# Altium integrated library Resistors.IntLib: 4954 symbols (part 3 of 32)
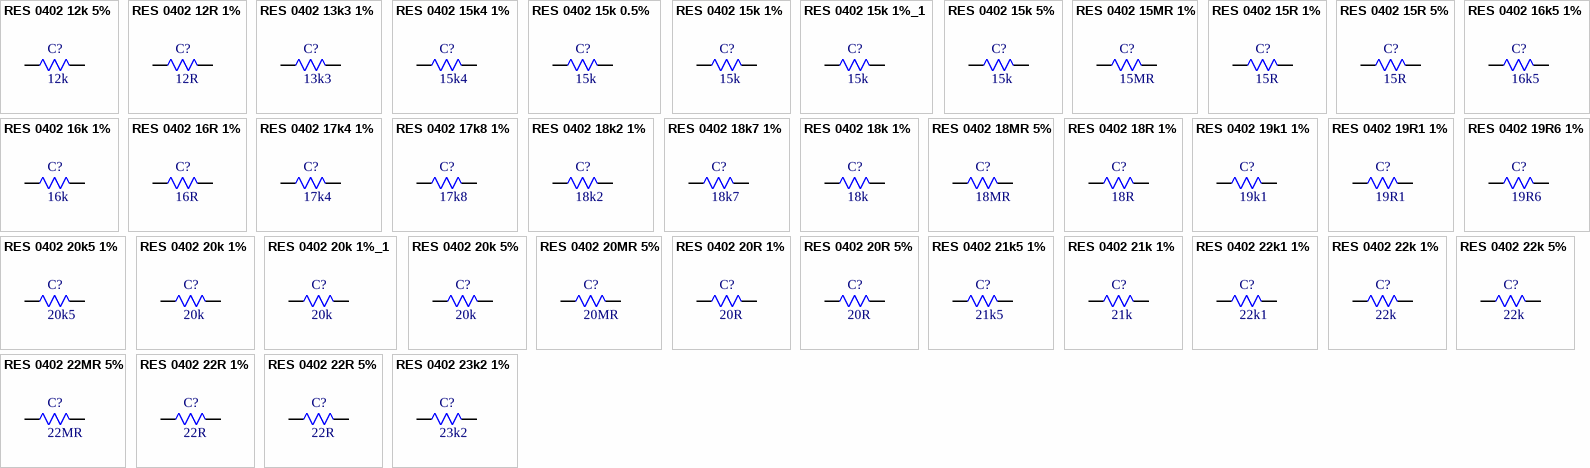
[diagram p125: symbols RES 0402 12k 5% to RES 0402 23k2 1%]

## RES 0402 22MR 5%
designator C?, comment 22MR
62.5mW 22MR Thick Film Resistor 200ppm/â„ƒ 5% 0402 Chip Resistor - Surface Mount RoHS; Manufacturer: FOJAN; Manufacturer Part Number: FRG0402J226 TS; Supplier: LCSC; Supplier Part Number: C7468689; Resistance: 22MR; Tolerance: 5%; Power: 62.5mW
footprint RES SMD 0402
pins: 1, 2

## RES 0402 22R 1%
designator C?, comment 22R
22R 1% 62.5mW 0402 Thick Film Resistor; Manufacturer: FOJAN; Manufacturer Part Number: FRC0402F22R0TS; Voltage Rating: 50V; Supplier: LCSC; Supplier Part Number: C2929994; Resistance: 22R; Tolerance: 1%; Power: 62.5mW
footprint RES SMD 0402
pins: 1, 2

## RES 0402 22R 5%
designator C?, comment 22R
22R 5% 62.5mW 0402 Thick Film Resistor; Manufacturer: FOJAN; Manufacturer Part Number: FRC0402J220 TS; Voltage Rating: 50V; Supplier: LCSC; Supplier Part Number: C2906914; Resistance: 22R; Tolerance: 5%; Power: 62.5mW
footprint RES SMD 0402
pins: 1, 2

## RES 0402 23k2 1%
designator C?, comment 23k2
23.2kR 1% 62.5mW 0402 Thick Film Resistor; Manufacturer: FOJAN; Manufacturer Part Number: FRC0402F2322TS; Voltage Rating: 50V; Supplier: LCSC; Supplier Part Number: C2998177; Resistance: 23k2; Tolerance: 1%; Power: 62.5mW
footprint RES SMD 0402
pins: 1, 2

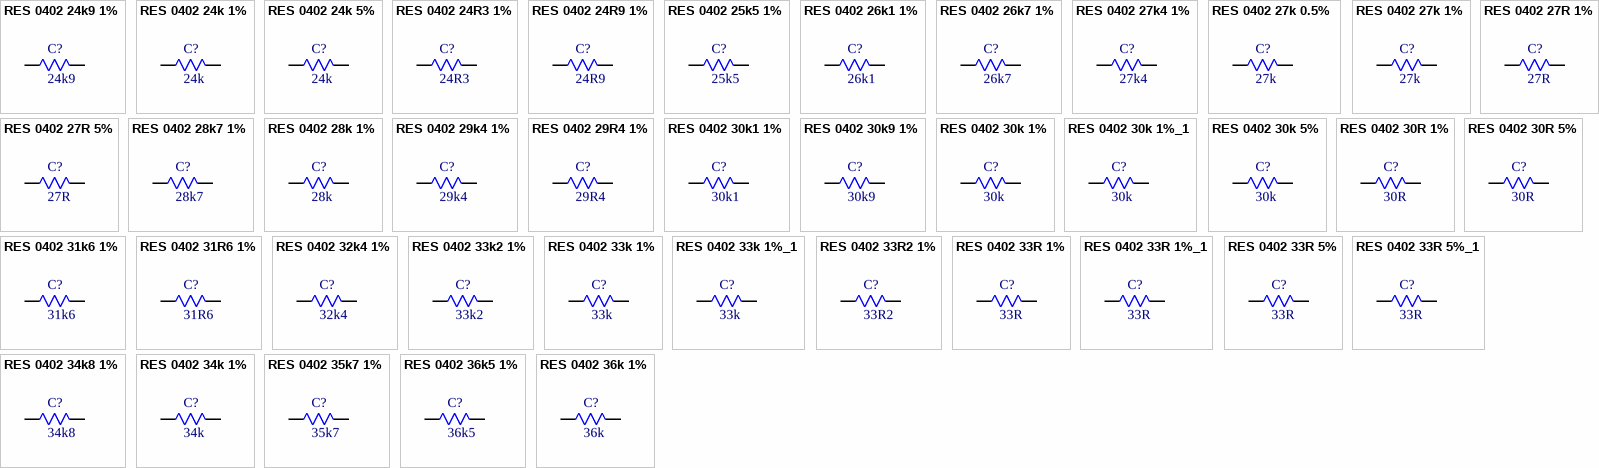
[diagram p8: symbols RES 0402 24k9 1% to RES 0402 36k 1%]

## RES 0402 24k9 1%
designator C?, comment 24k9
24.9kR 1% 62.5mW 0402 Thick Film Resistor; Manufacturer: FOJAN; Manufacturer Part Number: FRC0402F2492TS; Voltage Rating: 50V; Supplier: LCSC; Supplier Part Number: C2998048; Resistance: 24k9; Tolerance: 1%; Power: 62.5mW
footprint RES SMD 0402
pins: 1, 2

## RES 0402 24k 1%
designator C?, comment 24k
24kR 1% 62.5mW 0402 Thick Film Resistor; Manufacturer: FOJAN; Manufacturer Part Number: FRC0402F2402TS; Voltage Rating: 50V; Supplier: LCSC; Supplier Part Number: C2933082; Resistance: 24k; Tolerance: 1%; Power: 62.5mW
footprint RES SMD 0402
pins: 1, 2

## RES 0402 24k 5%
designator C?, comment 24k
24kR 5% 62.5mW 0402 Thick Film Resistor; Manufacturer: FOJAN; Manufacturer Part Number: FRC0402J243 TS; Voltage Rating: 50V; Supplier: LCSC; Supplier Part Number: C2906917; Resistance: 24k; Tolerance: 5%; Power: 62.5mW
footprint RES SMD 0402
pins: 1, 2

## RES 0402 24R3 1%
designator C?, comment 24R3
24.3R 1% 62.5mW 0402 Thick Film Resistor; Manufacturer: FOJAN; Manufacturer Part Number: FRC0402F24R3TS; Voltage Rating: 50V; Supplier: LCSC; Supplier Part Number: C5126205; Resistance: 24R3; Tolerance: 1%; Power: 62.5mW
footprint RES SMD 0402
pins: 1, 2

## RES 0402 24R9 1%
designator C?, comment 24R9
24.9R 1% 62.5mW 0402 Thick Film Resistor; Manufacturer: FOJAN; Manufacturer Part Number: FRC0402F24R9TS; Voltage Rating: 50V; Supplier: LCSC; Supplier Part Number: C5126017; Resistance: 24R9; Tolerance: 1%; Power: 62.5mW
footprint RES SMD 0402
pins: 1, 2

## RES 0402 25k5 1%
designator C?, comment 25k5
25.5kR 1% 62.5mW 0402 Thick Film Resistor; Manufacturer: FOJAN; Manufacturer Part Number: FRC0402F2552TS; Voltage Rating: 50V; Supplier: LCSC; Supplier Part Number: C2998160; Resistance: 25k5; Tolerance: 1%; Power: 62.5mW
footprint RES SMD 0402
pins: 1, 2

## RES 0402 26k1 1%
designator C?, comment 26k1
26.1kR 1% 62.5mW 0402 Thick Film Resistor; Manufacturer: FOJAN; Manufacturer Part Number: FRC0402F2612TS; Voltage Rating: 50V; Supplier: LCSC; Supplier Part Number: C2998049; Resistance: 26k1; Tolerance: 1%; Power: 62.5mW
footprint RES SMD 0402
pins: 1, 2

## RES 0402 26k7 1%
designator C?, comment 26k7
26.7kR 1% 62.5mW 0402 Thick Film Resistor; Manufacturer: FOJAN; Manufacturer Part Number: FRC0402F2672TS; Voltage Rating: 50V; Supplier: LCSC; Supplier Part Number: C5121521; Resistance: 26k7; Tolerance: 1%; Power: 62.5mW
footprint RES SMD 0402
pins: 1, 2

## RES 0402 27k4 1%
designator C?, comment 27k4
27.4kR 1% 62.5mW 0402 Thick Film Resistor; Manufacturer: FOJAN; Manufacturer Part Number: FRC0402F2742TS; Voltage Rating: 50V; Supplier: LCSC; Supplier Part Number: C5159682; Resistance: 27k4; Tolerance: 1%; Power: 62.5mW
footprint RES SMD 0402
pins: 1, 2

## RES 0402 27k 0.5%
designator C?, comment 27k
27kR 62.5mW Thick Film Resistor 0.5% 0402 Chip Resistor - Surface Mount RoHS; Manufacturer: FOJAN; Manufacturer Part Number: FRH0402D2702TS; Supplier: LCSC; Supplier Part Number: C18164314; Resistance: 27k; Tolerance: 0.5%; Power: 62.5mW
footprint RES SMD 0402
pins: 1, 2

## RES 0402 27k 1%
designator C?, comment 27k
27kR 1% 62.5mW 0402 Thick Film Resistor; Manufacturer: FOJAN; Manufacturer Part Number: FRC0402F2702TS; Voltage Rating: 50V; Supplier: LCSC; Supplier Part Number: C2933084; Resistance: 27k; Tolerance: 1%; Power: 62.5mW
footprint RES SMD 0402
pins: 1, 2

## RES 0402 27R 1%
designator C?, comment 27R
27R 1% 62.5mW 0402 Thick Film Resistor; Manufacturer: FOJAN; Manufacturer Part Number: FRC0402F27R0TS; Voltage Rating: 50V; Supplier: LCSC; Supplier Part Number: C2909343; Resistance: 27R; Tolerance: 1%; Power: 62.5mW
footprint RES SMD 0402
pins: 1, 2

## RES 0402 27R 5%
designator C?, comment 27R
27R 5% 62.5mW 0402 Thick Film Resistor; Manufacturer: FOJAN; Manufacturer Part Number: FRC0402J270TS; Voltage Rating: 50V; Supplier: LCSC; Supplier Part Number: C2929914; Resistance: 27R; Tolerance: 5%; Power: 62.5mW
footprint RES SMD 0402
pins: 1, 2

## RES 0402 28k7 1%
designator C?, comment 28k7
28.7kR 1% 62.5mW 0402 Thick Film Resistor; Manufacturer: FOJAN; Manufacturer Part Number: FRC0402F2872TS; Voltage Rating: 50V; Supplier: LCSC; Supplier Part Number: C2998072; Resistance: 28k7; Tolerance: 1%; Power: 62.5mW
footprint RES SMD 0402
pins: 1, 2

## RES 0402 28k 1%
designator C?, comment 28k
28kR 1% 62.5mW 0402 Thick Film Resistor; Manufacturer: FOJAN; Manufacturer Part Number: FRC0402F2802TS; Voltage Rating: 50V; Supplier: LCSC; Supplier Part Number: C2998150; Resistance: 28k; Tolerance: 1%; Power: 62.5mW
footprint RES SMD 0402
pins: 1, 2

## RES 0402 29k4 1%
designator C?, comment 29k4
29.4kR 1% 62.5mW 0402 Thick Film Resistor; Manufacturer: FOJAN; Manufacturer Part Number: FRC0402F2942TS; Voltage Rating: 50V; Supplier: LCSC; Supplier Part Number: C5203996; Resistance: 29k4; Tolerance: 1%; Power: 62.5mW
footprint RES SMD 0402
pins: 1, 2

## RES 0402 29R4 1%
designator C?, comment 29R4
29.4R 1% 62.5mW 0402 Thick Film Resistor; Manufacturer: FOJAN; Manufacturer Part Number: FRC0402F29R4TS; Voltage Rating: 50V; Supplier: LCSC; Supplier Part Number: C5121523; Resistance: 29R4; Tolerance: 1%; Power: 62.5mW
footprint RES SMD 0402
pins: 1, 2

## RES 0402 30k1 1%
designator C?, comment 30k1
30.1kR 1% 62.5mW 0402 Thick Film Resistor; Manufacturer: FOJAN; Manufacturer Part Number: FRC0402F3012TS; Voltage Rating: 50V; Supplier: LCSC; Supplier Part Number: C2998131; Resistance: 30k1; Tolerance: 1%; Power: 62.5mW
footprint RES SMD 0402
pins: 1, 2

## RES 0402 30k9 1%
designator C?, comment 30k9
30.9kR 1% 62.5mW 0402 Thick Film Resistor; Manufacturer: FOJAN; Manufacturer Part Number: FRC0402F3092TS; Voltage Rating: 50V; Supplier: LCSC; Supplier Part Number: C2933086; Resistance: 30k9; Tolerance: 1%; Power: 62.5mW
footprint RES SMD 0402
pins: 1, 2

## RES 0402 30k 1%
designator C?, comment 30k
30kR 1% 62.5mW 0402 Thick Film Resistor; Manufacturer: FOJAN; Manufacturer Part Number: FRC0402F3002TS; Voltage Rating: 50V; Supplier: LCSC; Supplier Part Number: C2909347; Resistance: 30k; Tolerance: 1%; Power: 62.5mW
footprint RES SMD 0402
pins: 1, 2

## RES 0402 30k 1%_1
designator C?, comment 30k
30kR 62.5mW 50V Thick Film Resistor 1% 0402 Chip Resistor - Surface Mount RoHS; Manufacturer: FOJAN; Manufacturer Part Number: FRQ0402F3002TS; Supplier: LCSC; Supplier Part Number: C52033527; Resistance: 30k; Tolerance: 1%; Voltage Rating: 50V; Power: 62.5mW
footprint RES SMD 0402
pins: 1, 2

## RES 0402 30k 5%
designator C?, comment 30k
30kR 5% 62.5mW 0402 Thick Film Resistor; Manufacturer: FOJAN; Manufacturer Part Number: FRC0402J303 TS; Voltage Rating: 50V; Supplier: LCSC; Supplier Part Number: C2906928; Resistance: 30k; Tolerance: 5%; Power: 62.5mW
footprint RES SMD 0402
pins: 1, 2

## RES 0402 30R 1%
designator C?, comment 30R
30R 1% 62.5mW 0402 Thick Film Resistor; Manufacturer: FOJAN; Manufacturer Part Number: FRC0402F30R0TS; Voltage Rating: 50V; Supplier: LCSC; Supplier Part Number: C2909348; Resistance: 30R; Tolerance: 1%; Power: 62.5mW
footprint RES SMD 0402
pins: 1, 2

## RES 0402 30R 5%
designator C?, comment 30R
30R 5% 62.5mW 0402 Thick Film Resistor; Manufacturer: FOJAN; Manufacturer Part Number: FRC0402J300TS; Voltage Rating: 50V; Supplier: LCSC; Supplier Part Number: C2929919; Resistance: 30R; Tolerance: 5%; Power: 62.5mW
footprint RES SMD 0402
pins: 1, 2

## RES 0402 31k6 1%
designator C?, comment 31k6
31.6kR 1% 62.5mW 0402 Thick Film Resistor; Manufacturer: FOJAN; Manufacturer Part Number: FRC0402F3162TS; Voltage Rating: 50V; Supplier: LCSC; Supplier Part Number: C2998091; Resistance: 31k6; Tolerance: 1%; Power: 62.5mW
footprint RES SMD 0402
pins: 1, 2

## RES 0402 31R6 1%
designator C?, comment 31R6
31.6R 1% 62.5mW 0402 Thick Film Resistor; Manufacturer: FOJAN; Manufacturer Part Number: FRC0402F31R6TS; Voltage Rating: 50V; Supplier: LCSC; Supplier Part Number: C5126033; Resistance: 31R6; Tolerance: 1%; Power: 62.5mW
footprint RES SMD 0402
pins: 1, 2

## RES 0402 32k4 1%
designator C?, comment 32k4
32.4kR 1% 62.5mW 0402 Thick Film Resistor; Manufacturer: FOJAN; Manufacturer Part Number: FRC0402F3242TS; Voltage Rating: 50V; Supplier: LCSC; Supplier Part Number: C2933088; Resistance: 32k4; Tolerance: 1%; Power: 62.5mW
footprint RES SMD 0402
pins: 1, 2

## RES 0402 33k2 1%
designator C?, comment 33k2
33.2kR 1% 62.5mW 0402 Thick Film Resistor; Manufacturer: FOJAN; Manufacturer Part Number: FRC0402F3322TS; Voltage Rating: 50V; Supplier: LCSC; Supplier Part Number: C2930001; Resistance: 33k2; Tolerance: 1%; Power: 62.5mW
footprint RES SMD 0402
pins: 1, 2

## RES 0402 33k 1%
designator C?, comment 33k
33kR 1% 62.5mW 0402 Thick Film Resistor; Manufacturer: FOJAN; Manufacturer Part Number: FRC0402F3302TS; Voltage Rating: 50V; Supplier: LCSC; Supplier Part Number: C2909350; Resistance: 33k; Tolerance: 1%; Power: 62.5mW
footprint RES SMD 0402
pins: 1, 2

## RES 0402 33k 1%_1
designator C?, comment 33k
33kR 1% 62.5mW 0402 Thick Film Resistor AEC-Q200; Manufacturer: FOJAN; Manufacturer Part Number: FRQ0402F3302TS; Voltage Rating: 50V; Supplier: LCSC; Supplier Part Number: C5713430; Resistance: 33k; Tolerance: 1%; Power: 62.5mW
footprint RES SMD 0402
pins: 1, 2

## RES 0402 33R2 1%
designator C?, comment 33R2
33.2R 1% 62.5mW 0402 Thick Film Resistor; Manufacturer: FOJAN; Manufacturer Part Number: FRC0402F33R2TS; Voltage Rating: 50V; Supplier: LCSC; Supplier Part Number: C42372093; Resistance: 33R2; Tolerance: 1%; Power: 62.5mW
footprint RES SMD 0402
pins: 1, 2

## RES 0402 33R 1%
designator C?, comment 33R
33R 1% 62.5mW 0402 Thick Film Resistor; Manufacturer: FOJAN; Manufacturer Part Number: FRC0402F33R0TS; Voltage Rating: 50V; Supplier: LCSC; Supplier Part Number: C2906868; Resistance: 33R; Tolerance: 1%; Power: 62.5mW
footprint RES SMD 0402
pins: 1, 2

## RES 0402 33R 1%_1
designator C?, comment 33R
33R 62.5mW 50V Thick Film Resistor 100ppm/â„ƒ 1% 0402 Chip Resistor - Surface Mount RoHS; Manufacturer: FOJAN; Manufacturer Part Number: FRQ0402F33R0TS; Supplier: LCSC; Supplier Part Number: C18222252; Resistance: 33R; Tolerance: 1%; Voltage Rating: 50V; Power: 62.5mW
footprint RES SMD 0402
pins: 1, 2

## RES 0402 33R 5%
designator C?, comment 33R
33R 5% 62.5mW 0402 Thick Film Resistor; Manufacturer: FOJAN; Manufacturer Part Number: FRC0402J330 TS; Voltage Rating: 50V; Supplier: LCSC; Supplier Part Number: C2906931; Resistance: 33R; Tolerance: 5%; Power: 62.5mW
footprint RES SMD 0402
pins: 1, 2

## RES 0402 33R 5%_1
designator C?, comment 33R
33R 62.5mW 50V Thick Film Resistor 5% 0402 Chip Resistor - Surface Mount RoHS; Manufacturer: FOJAN; Manufacturer Part Number: FRQ0402J330 TS; Supplier: LCSC; Supplier Part Number: C52033532; Resistance: 33R; Tolerance: 5%; Voltage Rating: 50V; Power: 62.5mW
footprint RES SMD 0402
pins: 1, 2

## RES 0402 34k8 1%
designator C?, comment 34k8
34.8kR 1% 62.5mW 0402 Thick Film Resistor; Manufacturer: FOJAN; Manufacturer Part Number: FRC0402F3482TS; Voltage Rating: 50V; Supplier: LCSC; Supplier Part Number: C2998092; Resistance: 34k8; Tolerance: 1%; Power: 62.5mW
footprint RES SMD 0402
pins: 1, 2

## RES 0402 34k 1%
designator C?, comment 34k
34kR 1% 62.5mW 0402 Thick Film Resistor; Manufacturer: FOJAN; Manufacturer Part Number: FRC0402F3402TS; Voltage Rating: 50V; Supplier: LCSC; Supplier Part Number: C2933089; Resistance: 34k; Tolerance: 1%; Power: 62.5mW
footprint RES SMD 0402
pins: 1, 2

## RES 0402 35k7 1%
designator C?, comment 35k7
35.7kR 1% 62.5mW 0402 Thick Film Resistor; Manufacturer: FOJAN; Manufacturer Part Number: FRC0402F3572TS; Voltage Rating: 50V; Supplier: LCSC; Supplier Part Number: C2998133; Resistance: 35k7; Tolerance: 1%; Power: 62.5mW
footprint RES SMD 0402
pins: 1, 2

## RES 0402 36k5 1%
designator C?, comment 36k5
62.5mW 36.5kR 50V Thick Film Resistor 100ppm/â„ƒ 1% 0402 Chip Resistor - Surface Mount RoHS; Manufacturer: FOJAN; Manufacturer Part Number: FRC0402F3652TS; Supplier: LCSC; Supplier Part Number: C49010116; Resistance: 36k5; Tolerance: 1%; Voltage Rating: 50V; Power: 62.5mW
footprint RES SMD 0402
pins: 1, 2

## RES 0402 36k 1%
designator C?, comment 36k
36kR 1% 62.5mW 0402 Thick Film Resistor; Manufacturer: FOJAN; Manufacturer Part Number: FRC0402F3602TS; Voltage Rating: 50V; Supplier: LCSC; Supplier Part Number: C2930004; Resistance: 36k; Tolerance: 1%; Power: 62.5mW
footprint RES SMD 0402
pins: 1, 2

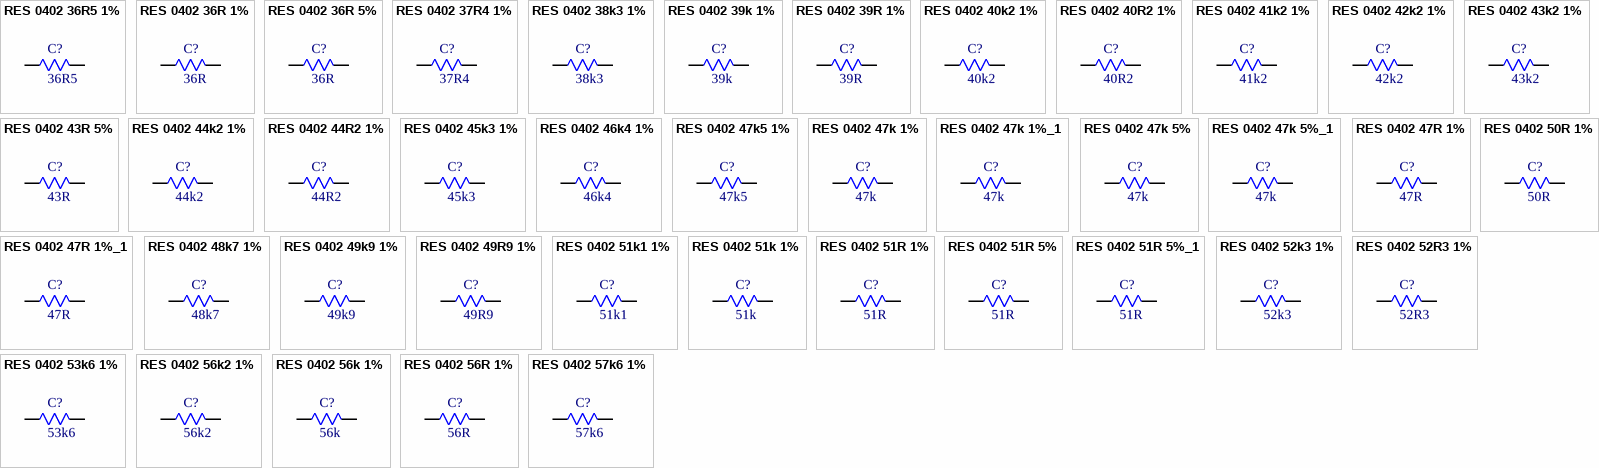
[diagram p9: symbols RES 0402 36R5 1% to RES 0402 57k6 1%]

## RES 0402 36R5 1%
designator C?, comment 36R5
62.5mW 36.5R 50V Thick Film Resistor 1% 100ppm/â„ƒ 0402 Chip Resistor - Surface Mount RoHS; Manufacturer: FOJAN; Manufacturer Part Number: FRC0402F36R5TS; Supplier: LCSC; Supplier Part Number: C7467317; Resistance: 36R5; Tolerance: 1%; Voltage Rating: 50V; Power: 62.5mW
footprint RES SMD 0402
pins: 1, 2

## RES 0402 36R 1%
designator C?, comment 36R
36R 1% 62.5mW 0402 Thick Film Resistor; Manufacturer: FOJAN; Manufacturer Part Number: FRC0402F36R0TS; Voltage Rating: 50V; Supplier: LCSC; Supplier Part Number: C2998152; Resistance: 36R; Tolerance: 1%; Power: 62.5mW
footprint RES SMD 0402
pins: 1, 2

## RES 0402 36R 5%
designator C?, comment 36R
36R 5% 62.5mW 0402 Thick Film Resistor; Manufacturer: FOJAN; Manufacturer Part Number: FRC0402J360 TS; Voltage Rating: 50V; Supplier: LCSC; Supplier Part Number: C2906935; Resistance: 36R; Tolerance: 5%; Power: 62.5mW
footprint RES SMD 0402
pins: 1, 2

## RES 0402 37R4 1%
designator C?, comment 37R4
37.4R 1% 62.5mW 0402 Thick Film Resistor; Manufacturer: FOJAN; Manufacturer Part Number: FRC0402F37R4TS; Voltage Rating: 50V; Supplier: LCSC; Supplier Part Number: C5159685; Resistance: 37R4; Tolerance: 1%; Power: 62.5mW
footprint RES SMD 0402
pins: 1, 2

## RES 0402 38k3 1%
designator C?, comment 38k3
38.3kR 1% 62.5mW 0402 Thick Film Resistor; Manufacturer: FOJAN; Manufacturer Part Number: FRC0402F3832TS; Voltage Rating: 50V; Supplier: LCSC; Supplier Part Number: C5126223; Resistance: 38k3; Tolerance: 1%; Power: 62.5mW
footprint RES SMD 0402
pins: 1, 2

## RES 0402 39k 1%
designator C?, comment 39k
39kR 1% 62.5mW 0402 Thick Film Resistor; Manufacturer: FOJAN; Manufacturer Part Number: FRC0402F3902TS; Voltage Rating: 50V; Supplier: LCSC; Supplier Part Number: C2930006; Resistance: 39k; Tolerance: 1%; Power: 62.5mW
footprint RES SMD 0402
pins: 1, 2

## RES 0402 39R 1%
designator C?, comment 39R
39R 1% 62.5mW 0402 Thick Film Resistor; Manufacturer: FOJAN; Manufacturer Part Number: FRC0402F39R0TS; Voltage Rating: 50V; Supplier: LCSC; Supplier Part Number: C2909354; Resistance: 39R; Tolerance: 1%; Power: 62.5mW
footprint RES SMD 0402
pins: 1, 2

## RES 0402 40k2 1%
designator C?, comment 40k2
40.2kR 1% 62.5mW 0402 Thick Film Resistor; Manufacturer: FOJAN; Manufacturer Part Number: FRC0402F4022TS; Voltage Rating: 50V; Supplier: LCSC; Supplier Part Number: C2933097; Resistance: 40k2; Tolerance: 1%; Power: 62.5mW
footprint RES SMD 0402
pins: 1, 2

## RES 0402 40R2 1%
designator C?, comment 40R2
40.2R 1% 62.5mW 0402 Thick Film Resistor; Manufacturer: FOJAN; Manufacturer Part Number: FRC0402F40R2TS; Voltage Rating: 50V; Supplier: LCSC; Supplier Part Number: C5154017; Resistance: 40R2; Tolerance: 1%; Power: 62.5mW
footprint RES SMD 0402
pins: 1, 2

## RES 0402 41k2 1%
designator C?, comment 41k2
41.2kR 1% 62.5mW 0402 Thick Film Resistor; Manufacturer: FOJAN; Manufacturer Part Number: FRC0402F4122TS; Voltage Rating: 50V; Supplier: LCSC; Supplier Part Number: C2998053; Resistance: 41k2; Tolerance: 1%; Power: 62.5mW
footprint RES SMD 0402
pins: 1, 2

## RES 0402 42k2 1%
designator C?, comment 42k2
42.2kR 1% 62.5mW 0402 Thick Film Resistor; Manufacturer: FOJAN; Manufacturer Part Number: FRC0402F4222TS; Voltage Rating: 50V; Supplier: LCSC; Supplier Part Number: C5126131; Resistance: 42k2; Tolerance: 1%; Power: 62.5mW
footprint RES SMD 0402
pins: 1, 2

## RES 0402 43k2 1%
designator C?, comment 43k2
43.2kR 1% 62.5mW 0402 Thick Film Resistor; Manufacturer: FOJAN; Manufacturer Part Number: FRC0402F4322TS; Voltage Rating: 50V; Supplier: LCSC; Supplier Part Number: C2906870; Resistance: 43k2; Tolerance: 1%; Power: 62.5mW
footprint RES SMD 0402
pins: 1, 2

## RES 0402 43R 5%
designator C?, comment 43R
43R 5% 62.5mW 0402 Thick Film Resistor; Manufacturer: FOJAN; Manufacturer Part Number: FRC0402J430 TS; Voltage Rating: 50V; Supplier: LCSC; Supplier Part Number: C2974022; Resistance: 43R; Tolerance: 5%; Power: 62.5mW
footprint RES SMD 0402
pins: 1, 2

## RES 0402 44k2 1%
designator C?, comment 44k2
44.2kR 1% 62.5mW 0402 Thick Film Resistor; Manufacturer: FOJAN; Manufacturer Part Number: FRC0402F4422TS; Voltage Rating: 50V; Supplier: LCSC; Supplier Part Number: C2933098; Resistance: 44k2; Tolerance: 1%; Power: 62.5mW
footprint RES SMD 0402
pins: 1, 2

## RES 0402 44R2 1%
designator C?, comment 44R2
44.2R 1% 62.5mW 0402 Thick Film Resistor; Manufacturer: FOJAN; Manufacturer Part Number: FRC0402F44R2TS; Voltage Rating: 50V; Supplier: LCSC; Supplier Part Number: C5126207; Resistance: 44R2; Tolerance: 1%; Power: 62.5mW
footprint RES SMD 0402
pins: 1, 2

## RES 0402 45k3 1%
designator C?, comment 45k3
45.3kR 1% 62.5mW 0402 Thick Film Resistor; Manufacturer: FOJAN; Manufacturer Part Number: FRC0402F4532TS; Voltage Rating: 50V; Supplier: LCSC; Supplier Part Number: C2933099; Resistance: 45k3; Tolerance: 1%; Power: 62.5mW
footprint RES SMD 0402
pins: 1, 2

## RES 0402 46k4 1%
designator C?, comment 46k4
46.4kR 1% 62.5mW 0402 Thick Film Resistor; Manufacturer: FOJAN; Manufacturer Part Number: FRC0402F4642TS; Voltage Rating: 50V; Supplier: LCSC; Supplier Part Number: C5126026; Resistance: 46k4; Tolerance: 1%; Power: 62.5mW
footprint RES SMD 0402
pins: 1, 2

## RES 0402 47k5 1%
designator C?, comment 47k5
47.5kR 1% 62.5mW 0402 Thick Film Resistor; Manufacturer: FOJAN; Manufacturer Part Number: FRC0402F4752TS; Voltage Rating: 50V; Supplier: LCSC; Supplier Part Number: C2930010; Resistance: 47k5; Tolerance: 1%; Power: 62.5mW
footprint RES SMD 0402
pins: 1, 2

## RES 0402 47k 1%
designator C?, comment 47k
47kR 1% 62.5mW 0402 Thick Film Resistor; Manufacturer: FOJAN; Manufacturer Part Number: FRC0402F4702TS; Voltage Rating: 50V; Supplier: LCSC; Supplier Part Number: C2906872; Resistance: 47k; Tolerance: 1%; Power: 62.5mW
footprint RES SMD 0402
pins: 1, 2

## RES 0402 47k 1%_1
designator C?, comment 47k
47kR 62.5mW 50V Thick Film Resistor 100ppm/â„ƒ 1% 0402 Chip Resistor - Surface Mount RoHS; Manufacturer: FOJAN; Manufacturer Part Number: FRQ0402F4702TS; Supplier: LCSC; Supplier Part Number: C18222281; Resistance: 47k; Tolerance: 1%; Voltage Rating: 50V; Power: 62.5mW
footprint RES SMD 0402
pins: 1, 2

## RES 0402 47k 5%
designator C?, comment 47k
47kR 5% 62.5mW 0402 Thick Film Resistor; Manufacturer: FOJAN; Manufacturer Part Number: FRC0402J473 TS; Voltage Rating: 50V; Supplier: LCSC; Supplier Part Number: C2906946; Resistance: 47k; Tolerance: 5%; Power: 62.5mW
footprint RES SMD 0402
pins: 1, 2

## RES 0402 47k 5%_1
designator C?, comment 47k
47kR 62.5mW 50V Thick Film Resistor 200ppm/â„ƒ 5% 0402 Chip Resistor - Surface Mount RoHS; Manufacturer: FOJAN; Manufacturer Part Number: FRQ0402J473 TS; Supplier: LCSC; Supplier Part Number: C7468492; Resistance: 47k; Tolerance: 5%; Voltage Rating: 50V; Power: 62.5mW
footprint RES SMD 0402
pins: 1, 2

## RES 0402 47R 1%
designator C?, comment 47R
47R 1% 62.5mW 0402 Thick Film Resistor; Manufacturer: FOJAN; Manufacturer Part Number: FRC0402F47R0TS; Voltage Rating: 50V; Supplier: LCSC; Supplier Part Number: C2909362; Resistance: 47R; Tolerance: 1%; Power: 62.5mW
footprint RES SMD 0402
pins: 1, 2

## RES 0402 47R 1%_1
designator C?, comment 47R
62.5mW 47R 50V Thick Film Resistor 100ppm/â„ƒ 1% 0402 Chip Resistor - Surface Mount RoHS; Manufacturer: FOJAN; Manufacturer Part Number: FRQ0402F47R0TS; Supplier: LCSC; Supplier Part Number: C49196884; Resistance: 47R; Tolerance: 1%; Voltage Rating: 50V; Power: 62.5mW
footprint RES SMD 0402
pins: 1, 2

## RES 0402 48k7 1%
designator C?, comment 48k7
48.7kR 1% 62.5mW 0402 Thick Film Resistor; Manufacturer: FOJAN; Manufacturer Part Number: FRC0402F4872TS; Voltage Rating: 50V; Supplier: LCSC; Supplier Part Number: C2933100; Resistance: 48k7; Tolerance: 1%; Power: 62.5mW
footprint RES SMD 0402
pins: 1, 2

## RES 0402 49k9 1%
designator C?, comment 49k9
49.9kR 1% 62.5mW 0402 Thick Film Resistor; Manufacturer: FOJAN; Manufacturer Part Number: FRC0402F4992TS; Voltage Rating: 50V; Supplier: LCSC; Supplier Part Number: C2906873; Resistance: 49k9; Tolerance: 1%; Power: 62.5mW
footprint RES SMD 0402
pins: 1, 2

## RES 0402 49R9 1%
designator C?, comment 49R9
49.9R 1% 62.5mW 0402 Thick Film Resistor; Manufacturer: FOJAN; Manufacturer Part Number: FRC0402F49R9TS; Voltage Rating: 50V; Supplier: LCSC; Supplier Part Number: C2933103; Resistance: 49R9; Tolerance: 1%; Power: 62.5mW
footprint RES SMD 0402
pins: 1, 2

## RES 0402 50R 1%
designator C?, comment 50R
62.5mW 50R 50V Thick Film Resistor 100ppm/â„ƒ 1% 0402 Chip Resistor - Surface Mount RoHS; Manufacturer: FOJAN; Manufacturer Part Number: FRC0402F50R0TS; Supplier: LCSC; Supplier Part Number: C51048227; Resistance: 50R; Tolerance: 1%; Voltage Rating: 50V; Power: 62.5mW
footprint RES SMD 0402
pins: 1, 2

## RES 0402 51k1 1%
designator C?, comment 51k1
51.1kR 1% 62.5mW 0402 Thick Film Resistor; Manufacturer: FOJAN; Manufacturer Part Number: FRC0402F5112TS; Voltage Rating: 50V; Supplier: LCSC; Supplier Part Number: C5126208; Resistance: 51k1; Tolerance: 1%; Power: 62.5mW
footprint RES SMD 0402
pins: 1, 2

## RES 0402 51k 1%
designator C?, comment 51k
51kR 1% 62.5mW 0402 Thick Film Resistor; Manufacturer: FOJAN; Manufacturer Part Number: FRC0402F5102TS; Voltage Rating: 50V; Supplier: LCSC; Supplier Part Number: C2909367; Resistance: 51k; Tolerance: 1%; Power: 62.5mW
footprint RES SMD 0402
pins: 1, 2

## RES 0402 51R 1%
designator C?, comment 51R
51R 1% 62.5mW 0402 Thick Film Resistor; Manufacturer: FOJAN; Manufacturer Part Number: FRC0402F51R0TS; Voltage Rating: 50V; Supplier: LCSC; Supplier Part Number: C2909368; Resistance: 51R; Tolerance: 1%; Power: 62.5mW
footprint RES SMD 0402
pins: 1, 2

## RES 0402 51R 5%
designator C?, comment 51R
51R 5% 62.5mW 0402 Thick Film Resistor; Manufacturer: FOJAN; Manufacturer Part Number: FRC0402J510 TS; Voltage Rating: 50V; Supplier: LCSC; Supplier Part Number: C2906953; Resistance: 51R; Tolerance: 5%; Power: 62.5mW
footprint RES SMD 0402
pins: 1, 2

## RES 0402 51R 5%_1
designator C?, comment 51R
62.5mW 51R Thick Film Resistor 200ppm/â„ƒ 5% 0402 Chip Resistor - Surface Mount RoHS; Manufacturer: FOJAN; Manufacturer Part Number: FRQ0402J510 TS; Supplier: LCSC; Supplier Part Number: C7468477; Resistance: 51R; Tolerance: 5%; Power: 62.5mW
footprint RES SMD 0402
pins: 1, 2

## RES 0402 52k3 1%
designator C?, comment 52k3
52.3kR 1% 62.5mW 0402 Thick Film Resistor; Manufacturer: FOJAN; Manufacturer Part Number: FRC0402F5232TS; Voltage Rating: 50V; Supplier: LCSC; Supplier Part Number: C2998086; Resistance: 52k3; Tolerance: 1%; Power: 62.5mW
footprint RES SMD 0402
pins: 1, 2

## RES 0402 52R3 1%
designator C?, comment 52R3
52.3R 1% 62.5mW 0402 Thick Film Resistor; Manufacturer: FOJAN; Manufacturer Part Number: FRC0402F52R3TS; Voltage Rating: 50V; Supplier: LCSC; Supplier Part Number: C5126209; Resistance: 52R3; Tolerance: 1%; Power: 62.5mW
footprint RES SMD 0402
pins: 1, 2

## RES 0402 53k6 1%
designator C?, comment 53k6
53.6kR 1% 62.5mW 0402 Thick Film Resistor; Manufacturer: FOJAN; Manufacturer Part Number: FRC0402F5362TS; Voltage Rating: 50V; Supplier: LCSC; Supplier Part Number: C5153961; Resistance: 53k6; Tolerance: 1%; Power: 62.5mW
footprint RES SMD 0402
pins: 1, 2

## RES 0402 56k2 1%
designator C?, comment 56k2
56.2kR 1% 62.5mW 0402 Thick Film Resistor; Manufacturer: FOJAN; Manufacturer Part Number: FRC0402F5622TS; Voltage Rating: 50V; Supplier: LCSC; Supplier Part Number: C5126096; Resistance: 56k2; Tolerance: 1%; Power: 62.5mW
footprint RES SMD 0402
pins: 1, 2

## RES 0402 56k 1%
designator C?, comment 56k
56kR 1% 62.5mW 0402 Thick Film Resistor; Manufacturer: FOJAN; Manufacturer Part Number: FRC0402F5602TS; Voltage Rating: 50V; Supplier: LCSC; Supplier Part Number: C2906875; Resistance: 56k; Tolerance: 1%; Power: 62.5mW
footprint RES SMD 0402
pins: 1, 2

## RES 0402 56R 1%
designator C?, comment 56R
56R 1% 62.5mW 0402 Thick Film Resistor; Manufacturer: FOJAN; Manufacturer Part Number: FRC0402F56R0TS; Voltage Rating: 50V; Supplier: LCSC; Supplier Part Number: C3013179; Resistance: 56R; Tolerance: 1%; Power: 62.5mW
footprint RES SMD 0402
pins: 1, 2

## RES 0402 57k6 1%
designator C?, comment 57k6
57.6kR 1% 62.5mW 0402 Thick Film Resistor; Manufacturer: FOJAN; Manufacturer Part Number: FRC0402F5762TS; Voltage Rating: 50V; Supplier: LCSC; Supplier Part Number: C2960799; Resistance: 57k6; Tolerance: 1%; Power: 62.5mW
footprint RES SMD 0402
pins: 1, 2

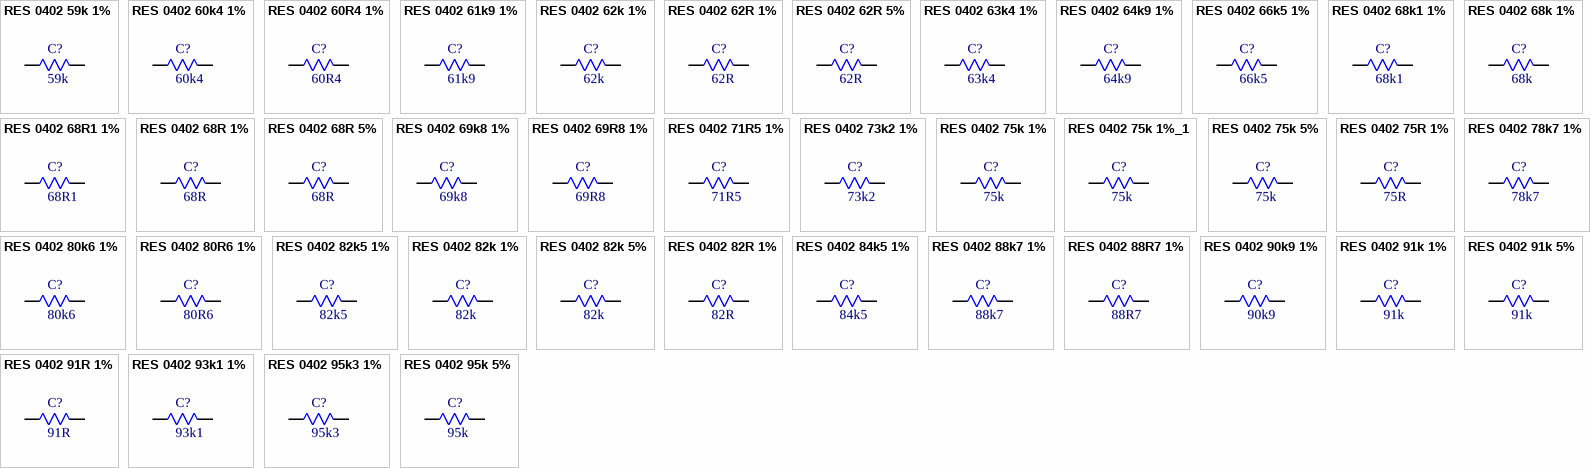
[diagram p10: symbols RES 0402 59k 1% to RES 0402 95k 5%]

## RES 0402 59k 1%
designator C?, comment 59k
59kR 1% 62.5mW 0402 Thick Film Resistor; Manufacturer: FOJAN; Manufacturer Part Number: FRC0402F5902TS; Voltage Rating: 50V; Supplier: LCSC; Supplier Part Number: C3013182; Resistance: 59k; Tolerance: 1%; Power: 62.5mW
footprint RES SMD 0402
pins: 1, 2

## RES 0402 60k4 1%
designator C?, comment 60k4
60.4kR 1% 62.5mW 0402 Thick Film Resistor; Manufacturer: FOJAN; Manufacturer Part Number: FRC0402F6042TS; Voltage Rating: 50V; Supplier: LCSC; Supplier Part Number: C2998058; Resistance: 60k4; Tolerance: 1%; Power: 62.5mW
footprint RES SMD 0402
pins: 1, 2

## RES 0402 60R4 1%
designator C?, comment 60R4
60.4R 1% 62.5mW 0402 Thick Film Resistor; Manufacturer: FOJAN; Manufacturer Part Number: FRC0402F60R4TS; Voltage Rating: 50V; Supplier: LCSC; Supplier Part Number: C2960873; Resistance: 60R4; Tolerance: 1%; Power: 62.5mW
footprint RES SMD 0402
pins: 1, 2

## RES 0402 61k9 1%
designator C?, comment 61k9
61.9kR 1% 62.5mW 0402 Thick Film Resistor; Manufacturer: FOJAN; Manufacturer Part Number: FRC0402F6192TS; Voltage Rating: 50V; Supplier: LCSC; Supplier Part Number: C2933106; Resistance: 61k9; Tolerance: 1%; Power: 62.5mW
footprint RES SMD 0402
pins: 1, 2

## RES 0402 62k 1%
designator C?, comment 62k
62kR 1% 62.5mW 0402 Thick Film Resistor; Manufacturer: FOJAN; Manufacturer Part Number: FRC0402F6202TS; Voltage Rating: 50V; Supplier: LCSC; Supplier Part Number: C2909375; Resistance: 62k; Tolerance: 1%; Power: 62.5mW
footprint RES SMD 0402
pins: 1, 2

## RES 0402 62R 1%
designator C?, comment 62R
62R 62.5mW 50V Thick Film Resistor 1% 0402 Chip Resistor - Surface Mount RoHS; Manufacturer: FOJAN; Manufacturer Part Number: FRQ0402F62R0TS; Supplier: LCSC; Supplier Part Number: C52033558; Resistance: 62R; Tolerance: 1%; Voltage Rating: 50V; Power: 62.5mW
footprint RES SMD 0402
pins: 1, 2

## RES 0402 62R 5%
designator C?, comment 62R
62R 5% 62.5mW 0402 Thick Film Resistor; Manufacturer: FOJAN; Manufacturer Part Number: FRC0402J620TS; Voltage Rating: 50V; Supplier: LCSC; Supplier Part Number: C2929931; Resistance: 62R; Tolerance: 5%; Power: 62.5mW
footprint RES SMD 0402
pins: 1, 2

## RES 0402 63k4 1%
designator C?, comment 63k4
63.4kR 1% 62.5mW 0402 Thick Film Resistor; Manufacturer: FOJAN; Manufacturer Part Number: FRC0402F6342TS; Voltage Rating: 50V; Supplier: LCSC; Supplier Part Number: C2933107; Resistance: 63k4; Tolerance: 1%; Power: 62.5mW
footprint RES SMD 0402
pins: 1, 2

## RES 0402 64k9 1%
designator C?, comment 64k9
64.9kR 1% 62.5mW 0402 Thick Film Resistor; Manufacturer: FOJAN; Manufacturer Part Number: FRC0402F6492TS; Voltage Rating: 50V; Supplier: LCSC; Supplier Part Number: C5713275; Resistance: 64k9; Tolerance: 1%; Power: 62.5mW
footprint RES SMD 0402
pins: 1, 2

## RES 0402 66k5 1%
designator C?, comment 66k5
66.5kR 1% 62.5mW 0402 Thick Film Resistor; Manufacturer: FOJAN; Manufacturer Part Number: FRC0402F6652TS; Voltage Rating: 50V; Supplier: LCSC; Supplier Part Number: C2998095; Resistance: 66k5; Tolerance: 1%; Power: 62.5mW
footprint RES SMD 0402
pins: 1, 2

## RES 0402 68k1 1%
designator C?, comment 68k1
68.1kR 1% 62.5mW 0402 Thick Film Resistor; Manufacturer: FOJAN; Manufacturer Part Number: FRC0402F6812TS; Voltage Rating: 50V; Supplier: LCSC; Supplier Part Number: C3013185; Resistance: 68k1; Tolerance: 1%; Power: 62.5mW
footprint RES SMD 0402
pins: 1, 2

## RES 0402 68k 1%
designator C?, comment 68k
68kR 1% 62.5mW 0402 Thick Film Resistor; Manufacturer: FOJAN; Manufacturer Part Number: FRC0402F6802TS; Voltage Rating: 50V; Supplier: LCSC; Supplier Part Number: C2909379; Resistance: 68k; Tolerance: 1%; Power: 62.5mW
footprint RES SMD 0402
pins: 1, 2

## RES 0402 68R1 1%
designator C?, comment 68R1
62.5mW 68.1R 50V Thick Film Resistor 100ppm/â„ƒ 1% 0402 Chip Resistor - Surface Mount RoHS; Manufacturer: FOJAN; Manufacturer Part Number: FRC0402F68R1TS; Supplier: LCSC; Supplier Part Number: C51048237; Resistance: 68R1; Tolerance: 1%; Voltage Rating: 50V; Power: 62.5mW
footprint RES SMD 0402
pins: 1, 2

## RES 0402 68R 1%
designator C?, comment 68R
68R 1% 62.5mW 0402 Thick Film Resistor; Manufacturer: FOJAN; Manufacturer Part Number: FRC0402F68R0TS; Voltage Rating: 50V; Supplier: LCSC; Supplier Part Number: C2909380; Resistance: 68R; Tolerance: 1%; Power: 62.5mW
footprint RES SMD 0402
pins: 1, 2

## RES 0402 68R 5%
designator C?, comment 68R
68R 5% 62.5mW 0402 Thick Film Resistor; Manufacturer: FOJAN; Manufacturer Part Number: FRC0402J680 TS; Voltage Rating: 50V; Supplier: LCSC; Supplier Part Number: C2906961; Resistance: 68R; Tolerance: 5%; Power: 62.5mW
footprint RES SMD 0402
pins: 1, 2

## RES 0402 69k8 1%
designator C?, comment 69k8
69.8kR 1% 62.5mW 0402 Thick Film Resistor; Manufacturer: FOJAN; Manufacturer Part Number: FRC0402F6982TS; Voltage Rating: 50V; Supplier: LCSC; Supplier Part Number: C5126210; Resistance: 69k8; Tolerance: 1%; Power: 62.5mW
footprint RES SMD 0402
pins: 1, 2

## RES 0402 69R8 1%
designator C?, comment 69R8
69.8R 1% 62.5mW 0402 Thick Film Resistor; Manufacturer: FOJAN; Manufacturer Part Number: FRC0402F69R8TS; Voltage Rating: 50V; Supplier: LCSC; Supplier Part Number: C2998098; Resistance: 69R8; Tolerance: 1%; Power: 62.5mW
footprint RES SMD 0402
pins: 1, 2

## RES 0402 71R5 1%
designator C?, comment 71R5
71.5R 1% 62.5mW 0402 Thick Film Resistor; Manufacturer: FOJAN; Manufacturer Part Number: FRC0402F71R5TS; Voltage Rating: 50V; Supplier: LCSC; Supplier Part Number: C2998146; Resistance: 71R5; Tolerance: 1%; Power: 62.5mW
footprint RES SMD 0402
pins: 1, 2

## RES 0402 73k2 1%
designator C?, comment 73k2
73.2kR 1% 62.5mW 0402 Thick Film Resistor; Manufacturer: FOJAN; Manufacturer Part Number: FRC0402F7322TS; Voltage Rating: 50V; Supplier: LCSC; Supplier Part Number: C2998163; Resistance: 73k2; Tolerance: 1%; Power: 62.5mW
footprint RES SMD 0402
pins: 1, 2

## RES 0402 75k 1%
designator C?, comment 75k
75kR 1% 62.5mW 0402 Thick Film Resistor; Manufacturer: FOJAN; Manufacturer Part Number: FRC0402F7502TS; Voltage Rating: 50V; Supplier: LCSC; Supplier Part Number: C2909383; Resistance: 75k; Tolerance: 1%; Power: 62.5mW
footprint RES SMD 0402
pins: 1, 2

## RES 0402 75k 1%_1
designator C?, comment 75k
62.5mW 75kR 50V Thick Film Resistor 1% 0402 Chip Resistor - Surface Mount RoHS; Manufacturer: FOJAN; Manufacturer Part Number: FRQ0402F7502TS; Supplier: LCSC; Supplier Part Number: C52033539; Resistance: 75k; Tolerance: 1%; Voltage Rating: 50V; Power: 62.5mW
footprint RES SMD 0402
pins: 1, 2

## RES 0402 75k 5%
designator C?, comment 75k
75kR 5% 62.5mW 0402 Thick Film Resistor; Manufacturer: FOJAN; Manufacturer Part Number: FRC0402J753 TS; Voltage Rating: 50V; Supplier: LCSC; Supplier Part Number: C2906965; Resistance: 75k; Tolerance: 5%; Power: 62.5mW
footprint RES SMD 0402
pins: 1, 2

## RES 0402 75R 1%
designator C?, comment 75R
75R 1% 62.5mW 0402 Thick Film Resistor; Manufacturer: FOJAN; Manufacturer Part Number: FRC0402F75R0TS; Voltage Rating: 50V; Supplier: LCSC; Supplier Part Number: C2909384; Resistance: 75R; Tolerance: 1%; Power: 62.5mW
footprint RES SMD 0402
pins: 1, 2

## RES 0402 78k7 1%
designator C?, comment 78k7
78.7kR 1% 62.5mW 0402 Thick Film Resistor; Manufacturer: FOJAN; Manufacturer Part Number: FRC0402F7872TS; Voltage Rating: 50V; Supplier: LCSC; Supplier Part Number: C2998104; Resistance: 78k7; Tolerance: 1%; Power: 62.5mW
footprint RES SMD 0402
pins: 1, 2

## RES 0402 80k6 1%
designator C?, comment 80k6
80.6kR 1% 62.5mW 0402 Thick Film Resistor; Manufacturer: FOJAN; Manufacturer Part Number: FRC0402F8062TS; Voltage Rating: 50V; Supplier: LCSC; Supplier Part Number: C2998147; Resistance: 80k6; Tolerance: 1%; Power: 62.5mW
footprint RES SMD 0402
pins: 1, 2

## RES 0402 80R6 1%
designator C?, comment 80R6
80.6R 1% 62.5mW 0402 Thick Film Resistor; Manufacturer: FOJAN; Manufacturer Part Number: FRC0402F80R6TS; Voltage Rating: 50V; Supplier: LCSC; Supplier Part Number: C5121526; Resistance: 80R6; Tolerance: 1%; Power: 62.5mW
footprint RES SMD 0402
pins: 1, 2

## RES 0402 82k5 1%
designator C?, comment 82k5
82.5kR 1% 62.5mW 0402 Thick Film Resistor; Manufacturer: FOJAN; Manufacturer Part Number: FRC0402F8252TS; Voltage Rating: 50V; Supplier: LCSC; Supplier Part Number: C5713276; Resistance: 82k5; Tolerance: 1%; Power: 62.5mW
footprint RES SMD 0402
pins: 1, 2

## RES 0402 82k 1%
designator C?, comment 82k
82kR 1% 62.5mW 0402 Thick Film Resistor; Manufacturer: FOJAN; Manufacturer Part Number: FRC0402F8202TS; Voltage Rating: 50V; Supplier: LCSC; Supplier Part Number: C2909388; Resistance: 82k; Tolerance: 1%; Power: 62.5mW
footprint RES SMD 0402
pins: 1, 2

## RES 0402 82k 5%
designator C?, comment 82k
82kR 5% 62.5mW 0402 Thick Film Resistor; Manufacturer: FOJAN; Manufacturer Part Number: FRC0402J823 TS; Voltage Rating: 50V; Supplier: LCSC; Supplier Part Number: C2906969; Resistance: 82k; Tolerance: 5%; Power: 62.5mW
footprint RES SMD 0402
pins: 1, 2

## RES 0402 82R 1%
designator C?, comment 82R
82R 1% 62.5mW 0402 Thick Film Resistor; Manufacturer: FOJAN; Manufacturer Part Number: FRC0402F82R0TS; Voltage Rating: 50V; Supplier: LCSC; Supplier Part Number: C2909389; Resistance: 82R; Tolerance: 1%; Power: 62.5mW
footprint RES SMD 0402
pins: 1, 2

## RES 0402 84k5 1%
designator C?, comment 84k5
84.5kR 1% 62.5mW 0402 Thick Film Resistor; Manufacturer: FOJAN; Manufacturer Part Number: FRC0402F8452TS; Voltage Rating: 50V; Supplier: LCSC; Supplier Part Number: C2998184; Resistance: 84k5; Tolerance: 1%; Power: 62.5mW
footprint RES SMD 0402
pins: 1, 2

## RES 0402 88k7 1%
designator C?, comment 88k7
62.5mW 88.7kR 50V Thick Film Resistor 100ppm/â„ƒ 1% 0402 Chip Resistor - Surface Mount RoHS; Manufacturer: FOJAN; Manufacturer Part Number: FRC0402F8872TS; Supplier: LCSC; Supplier Part Number: C19268614; Resistance: 88k7; Tolerance: 1%; Voltage Rating: 50V; Power: 62.5mW
footprint RES SMD 0402
pins: 1, 2

## RES 0402 88R7 1%
designator C?, comment 88R7
88.7R 62.5mW 50V Thick Film Resistor 1% 0402 Chip Resistor - Surface Mount RoHS; Manufacturer: FOJAN; Manufacturer Part Number: FRC0402F88R7TS; Supplier: LCSC; Supplier Part Number: C52033521; Resistance: 88R7; Tolerance: 1%; Voltage Rating: 50V; Power: 62.5mW
footprint RES SMD 0402
pins: 1, 2

## RES 0402 90k9 1%
designator C?, comment 90k9
90.9kR 1% 62.5mW 0402 Thick Film Resistor; Manufacturer: FOJAN; Manufacturer Part Number: FRC0402F9092TS; Voltage Rating: 50V; Supplier: LCSC; Supplier Part Number: C2998102; Resistance: 90k9; Tolerance: 1%; Power: 62.5mW
footprint RES SMD 0402
pins: 1, 2

## RES 0402 91k 1%
designator C?, comment 91k
91kR 1% 62.5mW 0402 Thick Film Resistor; Manufacturer: FOJAN; Manufacturer Part Number: FRC0402F9102TS; Voltage Rating: 50V; Supplier: LCSC; Supplier Part Number: C2909393; Resistance: 91k; Tolerance: 1%; Power: 62.5mW
footprint RES SMD 0402
pins: 1, 2

## RES 0402 91k 5%
designator C?, comment 91k
91kR 5% 62.5mW 0402 Thick Film Resistor; Manufacturer: FOJAN; Manufacturer Part Number: FRC0402J913 TS; Voltage Rating: 50V; Supplier: LCSC; Supplier Part Number: C2906973; Resistance: 91k; Tolerance: 5%; Power: 62.5mW
footprint RES SMD 0402
pins: 1, 2

## RES 0402 91R 1%
designator C?, comment 91R
91R 1% 62.5mW 0402 Thick Film Resistor; Manufacturer: FOJAN; Manufacturer Part Number: FRC0402F91R0TS; Voltage Rating: 50V; Supplier: LCSC; Supplier Part Number: C2998110; Resistance: 91R; Tolerance: 1%; Power: 62.5mW
footprint RES SMD 0402
pins: 1, 2

## RES 0402 93k1 1%
designator C?, comment 93k1
93.1kR 1% 62.5mW 0402 Thick Film Resistor; Manufacturer: FOJAN; Manufacturer Part Number: FRC0402F9312TS; Voltage Rating: 50V; Supplier: LCSC; Supplier Part Number: C5159693; Resistance: 93k1; Tolerance: 1%; Power: 62.5mW
footprint RES SMD 0402
pins: 1, 2

## RES 0402 95k3 1%
designator C?, comment 95k3
95.3kR 1% 62.5mW 0402 Thick Film Resistor; Manufacturer: FOJAN; Manufacturer Part Number: FRC0402F9532TS; Voltage Rating: 50V; Supplier: LCSC; Supplier Part Number: C5126039; Resistance: 95k3; Tolerance: 1%; Power: 62.5mW
footprint RES SMD 0402
pins: 1, 2

## RES 0402 95k 5%
designator C?, comment 95k
62.5mW 95kR 50V Thick Film Resistor 100ppm/â„ƒ 5% 0402 Chip Resistor - Surface Mount RoHS; Manufacturer: FOJAN; Manufacturer Part Number: FRC0402J953 TS; Supplier: LCSC; Supplier Part Number: C22375098; Resistance: 95k; Tolerance: 5%; Voltage Rating: 50V; Power: 62.5mW
footprint RES SMD 0402
pins: 1, 2

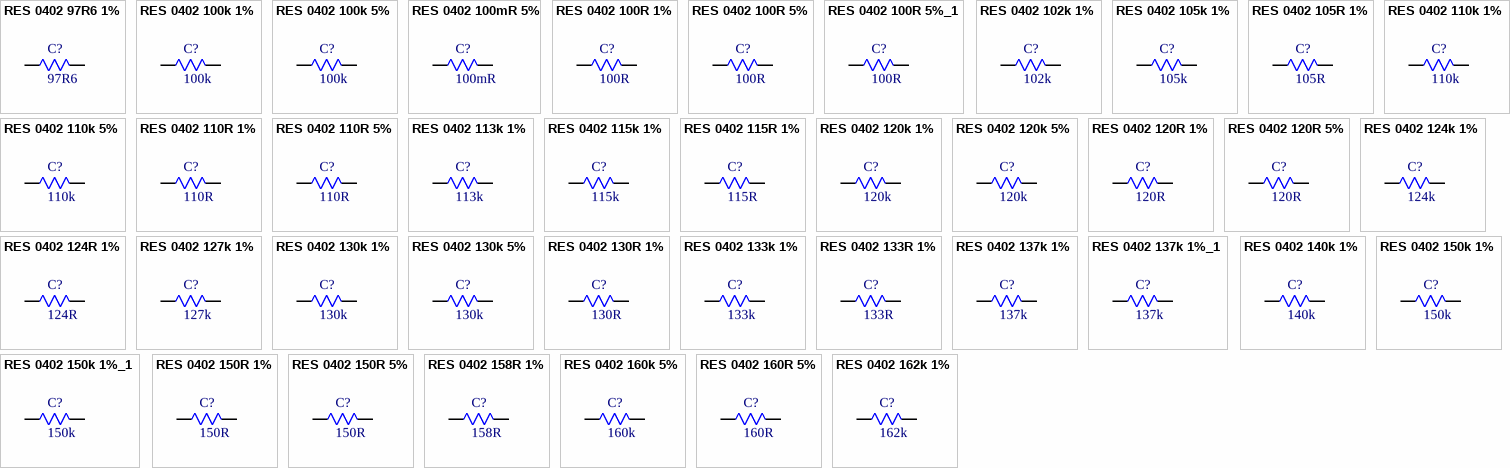
[diagram p11: symbols RES 0402 97R6 1% to RES 0402 162k 1%]

## RES 0402 97R6 1%
designator C?, comment 97R6
62.5mW 97.6R 50V Thick Film Resistor 100ppm/â„ƒ 1% 0402 Chip Resistor - Surface Mount RoHS; Manufacturer: FOJAN; Manufacturer Part Number: FRC0402F97R6TS; Supplier: LCSC; Supplier Part Number: C51048236; Resistance: 97R6; Tolerance: 1%; Voltage Rating: 50V; Power: 62.5mW
footprint RES SMD 0402
pins: 1, 2

## RES 0402 100k 1%
designator C?, comment 100k
100kR 1% 62.5mW 0402 Thick Film Resistor; Manufacturer: FOJAN; Manufacturer Part Number: FRC0402F1003TS; Voltage Rating: 50V; Supplier: LCSC; Supplier Part Number: C2906859; Resistance: 100k; Tolerance: 1%; Power: 62.5mW
footprint RES SMD 0402
pins: 1, 2

## RES 0402 100k 5%
designator C?, comment 100k
100kR 5% 62.5mW 0402 Thick Film Resistor; Manufacturer: FOJAN; Manufacturer Part Number: FRC0402J104 TS; Voltage Rating: 50V; Supplier: LCSC; Supplier Part Number: C2906883; Resistance: 100k; Tolerance: 5%; Power: 62.5mW
footprint RES SMD 0402
pins: 1, 2

## RES 0402 100mR 5%
designator C?, comment 100mR
100mR 5% 62.5mW 0402 Thick Film Resistor; Manufacturer: FOJAN; Manufacturer Part Number: FRL0402JR100TS; Voltage Rating: 100V; Supplier: LCSC; Supplier Part Number: C3013344; Resistance: 100mR; Tolerance: 5%; Power: 62.5mW
footprint RES SMD 0402
pins: 1, 2

## RES 0402 100R 1%
designator C?, comment 100R
100R 1% 62.5mW 0402 Thick Film Resistor; Manufacturer: FOJAN; Manufacturer Part Number: FRC0402F1000TS; Voltage Rating: 50V; Supplier: LCSC; Supplier Part Number: C2906860; Resistance: 100R; Tolerance: 1%; Power: 62.5mW
footprint RES SMD 0402
pins: 1, 2

## RES 0402 100R 5%
designator C?, comment 100R
62.5mW 100R 50V Thick Film Resistor 5% 100ppm/â„ƒ 0402 Chip Resistor - Surface Mount RoHS; Manufacturer: FOJAN; Manufacturer Part Number: FRQ0402J101 TS; Supplier: LCSC; Supplier Part Number: C7471238; Resistance: 100R; Tolerance: 5%; Voltage Rating: 50V; Power: 62.5mW
footprint RES SMD 0402
pins: 1, 2

## RES 0402 100R 5%_1
designator C?, comment 100R
100R 5% 62.5mW 0402 Thick Film Resistor; Manufacturer: FOJAN; Manufacturer Part Number: FRC0402J101 TS; Voltage Rating: 50V; Supplier: LCSC; Supplier Part Number: C2906884; Resistance: 100R; Tolerance: 5%; Power: 62.5mW
footprint RES SMD 0402
pins: 1, 2

## RES 0402 102k 1%
designator C?, comment 102k
102kR 1% 62.5mW 0402 Thick Film Resistor; Manufacturer: FOJAN; Manufacturer Part Number: FRC0402F1023TS; Voltage Rating: 50V; Supplier: LCSC; Supplier Part Number: C2933066; Resistance: 102k; Tolerance: 1%; Power: 62.5mW
footprint RES SMD 0402
pins: 1, 2

## RES 0402 105k 1%
designator C?, comment 105k
105kR 1% 62.5mW 0402 Thick Film Resistor; Manufacturer: FOJAN; Manufacturer Part Number: FRC0402F1053TS; Voltage Rating: 50V; Supplier: LCSC; Supplier Part Number: C2933067; Resistance: 105k; Tolerance: 1%; Power: 62.5mW
footprint RES SMD 0402
pins: 1, 2

## RES 0402 105R 1%
designator C?, comment 105R
105R 1% 62.5mW 0402 Thick Film Resistor; Manufacturer: FOJAN; Manufacturer Part Number: FRC0402F1050TS; Voltage Rating: 50V; Supplier: LCSC; Supplier Part Number: C2974003; Resistance: 105R; Tolerance: 1%; Power: 62.5mW
footprint RES SMD 0402
pins: 1, 2

## RES 0402 110k 1%
designator C?, comment 110k
110kR 1% 62.5mW 0402 Thick Film Resistor; Manufacturer: FOJAN; Manufacturer Part Number: FRC0402F1103TS; Voltage Rating: 50V; Supplier: LCSC; Supplier Part Number: C2909311; Resistance: 110k; Tolerance: 1%; Power: 62.5mW
footprint RES SMD 0402
pins: 1, 2

## RES 0402 110k 5%
designator C?, comment 110k
110kR 5% 62.5mW 0402 Thick Film Resistor; Manufacturer: FOJAN; Manufacturer Part Number: FRC0402J114TS; Voltage Rating: 50V; Supplier: LCSC; Supplier Part Number: C2929904; Resistance: 110k; Tolerance: 5%; Power: 62.5mW
footprint RES SMD 0402
pins: 1, 2

## RES 0402 110R 1%
designator C?, comment 110R
110R 1% 62.5mW 0402 Thick Film Resistor; Manufacturer: FOJAN; Manufacturer Part Number: FRC0402F1100TS; Voltage Rating: 50V; Supplier: LCSC; Supplier Part Number: C2909312; Resistance: 110R; Tolerance: 1%; Power: 62.5mW
footprint RES SMD 0402
pins: 1, 2

## RES 0402 110R 5%
designator C?, comment 110R
110R 5% 62.5mW 0402 Thick Film Resistor; Manufacturer: FOJAN; Manufacturer Part Number: FRC0402J111TS; Voltage Rating: 50V; Supplier: LCSC; Supplier Part Number: C2929905; Resistance: 110R; Tolerance: 5%; Power: 62.5mW
footprint RES SMD 0402
pins: 1, 2

## RES 0402 113k 1%
designator C?, comment 113k
113kR 1% 62.5mW 0402 Thick Film Resistor; Manufacturer: FOJAN; Manufacturer Part Number: FRC0402F1133TS; Voltage Rating: 50V; Supplier: LCSC; Supplier Part Number: C2998173; Resistance: 113k; Tolerance: 1%; Power: 62.5mW
footprint RES SMD 0402
pins: 1, 2

## RES 0402 115k 1%
designator C?, comment 115k
115kR 1% 62.5mW 0402 Thick Film Resistor; Manufacturer: FOJAN; Manufacturer Part Number: FRC0402F1153TS; Voltage Rating: 50V; Supplier: LCSC; Supplier Part Number: C3013150; Resistance: 115k; Tolerance: 1%; Power: 62.5mW
footprint RES SMD 0402
pins: 1, 2

## RES 0402 115R 1%
designator C?, comment 115R
115R 62.5mW 50V Thick Film Resistor 1% 100ppm/â„ƒ 0402 Chip Resistor - Surface Mount RoHS; Manufacturer: FOJAN; Manufacturer Part Number: FRC0402F1150TS; Supplier: LCSC; Supplier Part Number: C7467414; Resistance: 115R; Tolerance: 1%; Voltage Rating: 50V; Power: 62.5mW
footprint RES SMD 0402
pins: 1, 2

## RES 0402 120k 1%
designator C?, comment 120k
120kR 1% 62.5mW 0402 Thick Film Resistor; Manufacturer: FOJAN; Manufacturer Part Number: FRC0402F1203TS; Voltage Rating: 50V; Supplier: LCSC; Supplier Part Number: C2909314; Resistance: 120k; Tolerance: 1%; Power: 62.5mW
footprint RES SMD 0402
pins: 1, 2

## RES 0402 120k 5%
designator C?, comment 120k
120kR 5% 62.5mW 0402 Thick Film Resistor; Manufacturer: FOJAN; Manufacturer Part Number: FRC0402J124 TS; Voltage Rating: 50V; Supplier: LCSC; Supplier Part Number: C2906887; Resistance: 120k; Tolerance: 5%; Power: 62.5mW
footprint RES SMD 0402
pins: 1, 2

## RES 0402 120R 1%
designator C?, comment 120R
120R 1% 62.5mW 0402 Thick Film Resistor; Manufacturer: FOJAN; Manufacturer Part Number: FRC0402F1200TS; Voltage Rating: 50V; Supplier: LCSC; Supplier Part Number: C2909315; Resistance: 120R; Tolerance: 1%; Power: 62.5mW
footprint RES SMD 0402
pins: 1, 2

## RES 0402 120R 5%
designator C?, comment 120R
120R 5% 62.5mW 0402 Thick Film Resistor; Manufacturer: FOJAN; Manufacturer Part Number: FRC0402J121 TS; Voltage Rating: 50V; Supplier: LCSC; Supplier Part Number: C2906888; Resistance: 120R; Tolerance: 5%; Power: 62.5mW
footprint RES SMD 0402
pins: 1, 2

## RES 0402 124k 1%
designator C?, comment 124k
124kR 1% 62.5mW 0402 Thick Film Resistor; Manufacturer: FOJAN; Manufacturer Part Number: FRC0402F1243TS; Voltage Rating: 50V; Supplier: LCSC; Supplier Part Number: C2933070; Resistance: 124k; Tolerance: 1%; Power: 62.5mW
footprint RES SMD 0402
pins: 1, 2

## RES 0402 124R 1%
designator C?, comment 124R
124R 1% 62.5mW 0402 Thick Film Resistor; Manufacturer: FOJAN; Manufacturer Part Number: FRC0402F1240TS; Voltage Rating: 50V; Supplier: LCSC; Supplier Part Number: C2974005; Resistance: 124R; Tolerance: 1%; Power: 62.5mW
footprint RES SMD 0402
pins: 1, 2

## RES 0402 127k 1%
designator C?, comment 127k
127kR 1% 62.5mW 0402 Thick Film Resistor; Manufacturer: FOJAN; Manufacturer Part Number: FRC0402F1273TS; Voltage Rating: 50V; Supplier: LCSC; Supplier Part Number: C5126094; Resistance: 127k; Tolerance: 1%; Power: 62.5mW
footprint RES SMD 0402
pins: 1, 2

## RES 0402 130k 1%
designator C?, comment 130k
130kR 1% 62.5mW 0402 Thick Film Resistor; Manufacturer: FOJAN; Manufacturer Part Number: FRC0402F1303TS; Voltage Rating: 50V; Supplier: LCSC; Supplier Part Number: C2909318; Resistance: 130k; Tolerance: 1%; Power: 62.5mW
footprint RES SMD 0402
pins: 1, 2

## RES 0402 130k 5%
designator C?, comment 130k
130kR 5% 62.5mW 0402 Thick Film Resistor; Manufacturer: FOJAN; Manufacturer Part Number: FRC0402J134TS; Voltage Rating: 50V; Supplier: LCSC; Supplier Part Number: C2929906; Resistance: 130k; Tolerance: 5%; Power: 62.5mW
footprint RES SMD 0402
pins: 1, 2

## RES 0402 130R 1%
designator C?, comment 130R
130R 1% 62.5mW 0402 Thick Film Resistor; Manufacturer: FOJAN; Manufacturer Part Number: FRC0402F1300TS; Voltage Rating: 50V; Supplier: LCSC; Supplier Part Number: C2933071; Resistance: 130R; Tolerance: 1%; Power: 62.5mW
footprint RES SMD 0402
pins: 1, 2

## RES 0402 133k 1%
designator C?, comment 133k
133kR 1% 62.5mW 0402 Thick Film Resistor; Manufacturer: FOJAN; Manufacturer Part Number: FRC0402F1333TS; Voltage Rating: 50V; Supplier: LCSC; Supplier Part Number: C2998045; Resistance: 133k; Tolerance: 1%; Power: 62.5mW
footprint RES SMD 0402
pins: 1, 2

## RES 0402 133R 1%
designator C?, comment 133R
133R 1% 62.5mW 0402 Thick Film Resistor; Manufacturer: FOJAN; Manufacturer Part Number: FRC0402F1330TS; Voltage Rating: 50V; Supplier: LCSC; Supplier Part Number: C5126073; Resistance: 133R; Tolerance: 1%; Power: 62.5mW
footprint RES SMD 0402
pins: 1, 2

## RES 0402 137k 1%
designator C?, comment 137k
137kR 1% 62.5mW 0402 Thick Film Resistor; Manufacturer: FOJAN; Manufacturer Part Number: FRC0402F1373TS; Voltage Rating: 50V; Supplier: LCSC; Supplier Part Number: C5153963; Resistance: 137k; Tolerance: 1%; Power: 62.5mW
footprint RES SMD 0402
pins: 1, 2

## RES 0402 137k 1%_1
designator C?, comment 137k
137kR 62.5mW 50V Thick Film Resistor 1% 0402 Chip Resistor - Surface Mount RoHS; Manufacturer: FOJAN; Manufacturer Part Number: FRQ0402F1373TS; Supplier: LCSC; Supplier Part Number: C51048327; Resistance: 137k; Tolerance: 1%; Voltage Rating: 50V; Power: 62.5mW
footprint RES SMD 0402
pins: 1, 2

## RES 0402 140k 1%
designator C?, comment 140k
140kR 1% 62.5mW 0402 Thick Film Resistor; Manufacturer: FOJAN; Manufacturer Part Number: FRC0402F1403TS; Voltage Rating: 50V; Supplier: LCSC; Supplier Part Number: C2998127; Resistance: 140k; Tolerance: 1%; Power: 62.5mW
footprint RES SMD 0402
pins: 1, 2

## RES 0402 150k 1%
designator C?, comment 150k
150kR 1% 62.5mW 0402 Thick Film Resistor; Manufacturer: FOJAN; Manufacturer Part Number: FRC0402F1503TS; Voltage Rating: 50V; Supplier: LCSC; Supplier Part Number: C2909320; Resistance: 150k; Tolerance: 1%; Power: 62.5mW
footprint RES SMD 0402
pins: 1, 2

## RES 0402 150k 1%_1
designator C?, comment 150k
62.5mW 150kR Thick Film Resistor 200ppm/â„ƒ 1% 0402 Chip Resistor - Surface Mount RoHS; Manufacturer: FOJAN; Manufacturer Part Number: FRQ0402F1503TS; Supplier: LCSC; Supplier Part Number: C7468647; Resistance: 150k; Tolerance: 1%; Power: 62.5mW
footprint RES SMD 0402
pins: 1, 2

## RES 0402 150R 1%
designator C?, comment 150R
150R 1% 62.5mW 0402 Thick Film Resistor; Manufacturer: FOJAN; Manufacturer Part Number: FRC0402F1500TS; Voltage Rating: 50V; Supplier: LCSC; Supplier Part Number: C2909321; Resistance: 150R; Tolerance: 1%; Power: 62.5mW
footprint RES SMD 0402
pins: 1, 2

## RES 0402 150R 5%
designator C?, comment 150R
150R 5% 62.5mW 0402 Thick Film Resistor; Manufacturer: FOJAN; Manufacturer Part Number: FRC0402J151 TS; Voltage Rating: 50V; Supplier: LCSC; Supplier Part Number: C2906892; Resistance: 150R; Tolerance: 5%; Power: 62.5mW
footprint RES SMD 0402
pins: 1, 2